# Altium schematic symbol library S-85S1A.SchLib: 1 symbol
Pins are listed as number, name and electrical type; pins without a type are passive.

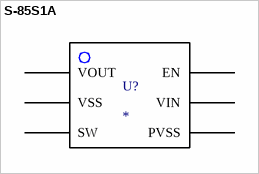
[diagram p0: symbol S-85S1A]

## S-85S1A
designator U?
footprint S-85S1A
pins: 1 VOUT, 2 VSS, 3 SW, 4 PVSS, 5 VIN, 6 EN